# Altium footprint library chip.PcbLib: 28 footprints (part 2 of 2)
Each footprint in its own frame and in the unit in brackets; x right, y up, seen from the top. Pads: shape width x height; smd on the part's side, far side on the other; paste and mask are expansions set on the pad; w line width, h text height; cw(c..) or ccw(c..) is an arc to the next point about the centre after c.
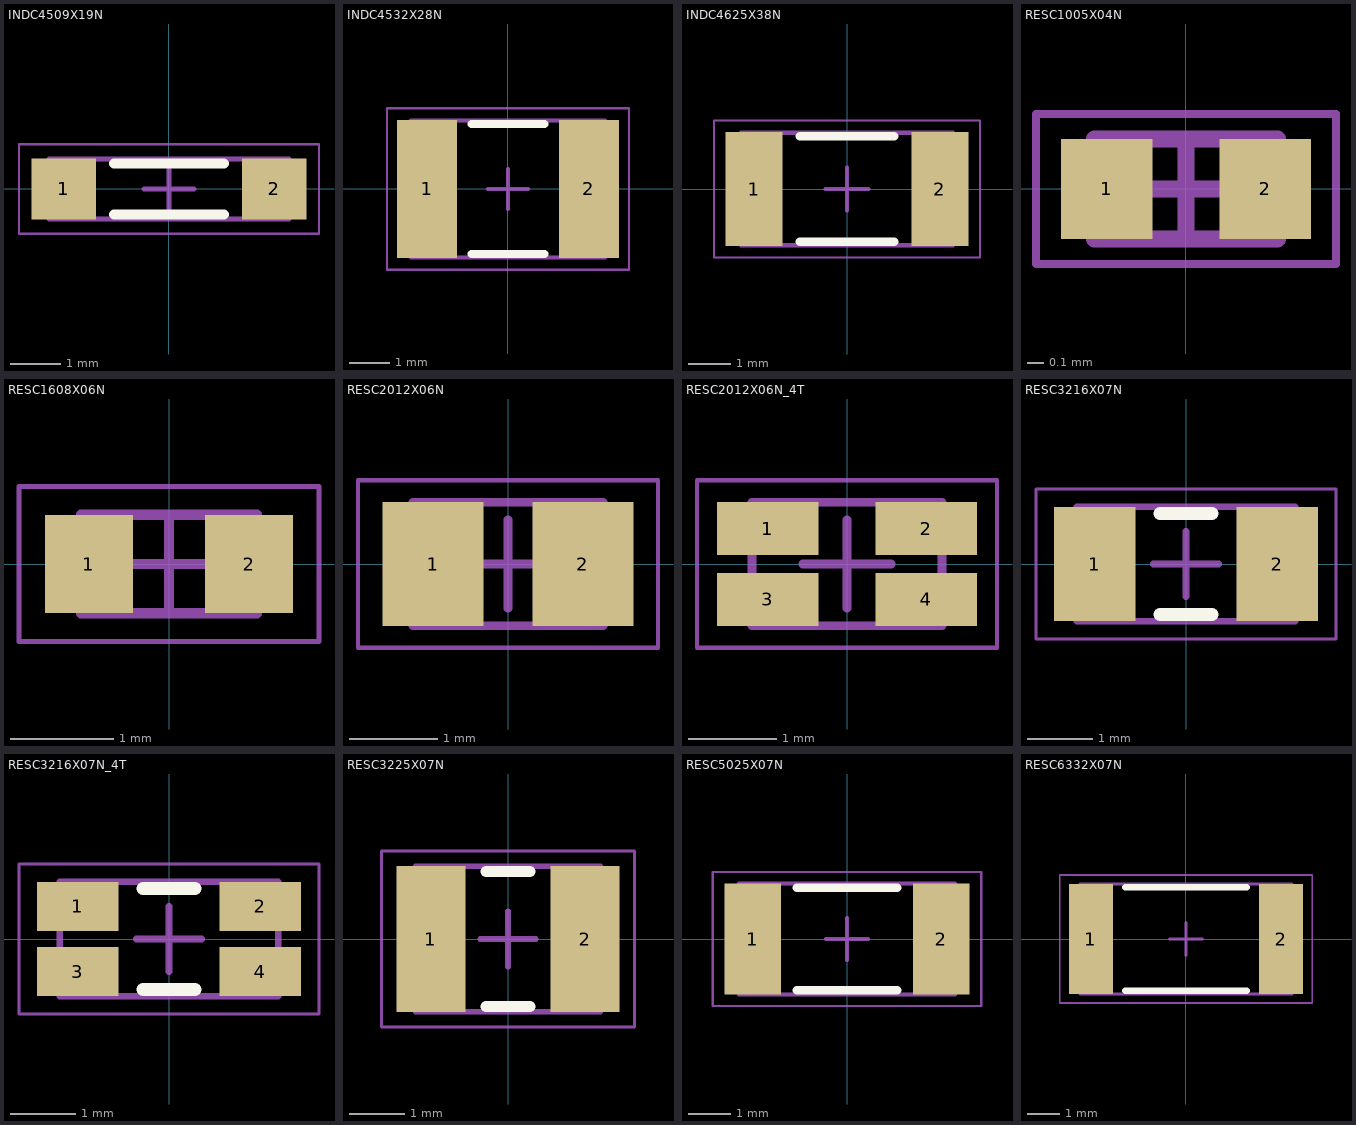
[diagram p1: the footprints below, top view; thin cyan lines are the x and y axes]

## INDC4509X19N [mm] "Chip Inductor, 2-Leads, Body 4.50x0.90mm, IPC Medium Density"
height 1.9
pads (2):
  rect 1.29x1.22 smd: 1(-2.105,0) 2(2.105,0)
Top Overlay:
  lines w0.2: -1.1,-0.51 1.1,-0.51 ; -1.1,0.51 1.1,0.51
Mechanical 13:
  lines w0.1: -2.4,-0.6 2.4,-0.6 2.4,0.6 -2.4,0.6 -2.4,-0.6
Mechanical 15:
  lines w0.05: -3,-0.9 3,-0.9 3,0.9 -3,0.9 -3,-0.9
  lines w0.1: -0.5,0 0.5,0 ; 0,-0.5 0,0.5
3D body "INDC4509X19N.step": height 1.9, standoff 0, extent -2.4,-0.6 2.4,0.6

## INDC4532X28N [mm] "Chip Inductor, 2-Leads, Body 4.50x3.20mm, IPC Medium Density"
height 2.8
pads (2):
  rect 1.49x3.42 smd: 1(-2.005,0) 2(2.005,0)
Top Overlay:
  lines w0.2: -0.9,-1.61 0.9,-1.61 ; -0.9,1.61 0.9,1.61
Mechanical 13:
  lines w0.1: -2.4,-1.7 2.4,-1.7 2.4,1.7 -2.4,1.7 -2.4,-1.7
Mechanical 15:
  lines w0.05: -3,-2 3,-2 3,2 -3,2 -3,-2
  lines w0.1: -0.5,0 0.5,0 ; 0,-0.5 0,0.5
3D body "INDC4532X28N.step": height 2.8, standoff 0, extent -2.4,-1.7 2.4,1.7

## INDC4625X38N [mm] "Chip Inductor, 2-Leads, Body 4.65x2.54mm, IPC Medium Density"
height 3.8
pads (2):
  rect 1.33x2.67 smd: 1(-2.165,0) 2(2.165,0)
Top Overlay:
  lines w0.2: -1.1,-1.235 1.1,-1.235 ; -1.1,1.235 1.1,1.235
Mechanical 13:
  lines w0.1: -2.475,-1.31 2.475,-1.31 2.475,1.31 -2.475,1.31 -2.475,-1.31
Mechanical 15:
  lines w0.05: -3.1,-1.6 3.1,-1.6 3.1,1.6 -3.1,1.6 -3.1,-1.6
  lines w0.1: -0.5,0 0.5,0 ; 0,-0.5 0,0.5
3D body "INDC4625X38N.step": height 3.8, standoff 0, extent -2.475,-1.31 2.475,1.31

## RESC1005X04N [mm] "Chip Resistor, 2-Leads, Body 1.05x0.54mm, IPC Medium Density"
height 0.4
pads (2):
  rect 0.55x0.6 smd: 1(-0.475,0) 2(0.475,0)
Mechanical 13:
  lines w0.1: -0.55,-0.3 0.55,-0.3 0.55,0.3 -0.55,0.3 -0.55,-0.3
Mechanical 15:
  lines w0.05: -0.9,-0.45 0.9,-0.45 0.9,0.45 -0.9,0.45 -0.9,-0.45
  lines w0.1: -0.3,0 0.3,0 ; 0,-0.3 0,0.3
3D body "RESC1005X04N.step": height 0.4, standoff 0, extent -0.55,-0.3 0.55,0.3

## RESC1608X06N [mm] "Chip Resistor, 2-Leads, Body 1.60x0.83mm, IPC Medium Density"
height 0.6
pads (2):
  rect 0.85x0.95 smd: 1(-0.775,0) 2(0.775,0)
Mechanical 13:
  lines w0.1: -0.85,-0.475 0.85,-0.475 0.85,0.475 -0.85,0.475 -0.85,-0.475
Mechanical 15:
  lines w0.05: -1.45,-0.75 1.45,-0.75 1.45,0.75 -1.45,0.75 -1.45,-0.75
  lines w0.1: -0.475,0 0.475,0 ; 0,-0.475 0,0.475
3D body "RESC1608X06N.step": height 0.6, standoff 0, extent -0.85,-0.475 0.85,0.475

## RESC2012X06N [mm] "Chip Resistor, 2-Leads, Body 2.00x1.25mm, IPC Medium Density"
height 0.65
pads (2):
  rect 1.15x1.4 smd: 1(-0.85,0) 2(0.85,0)
Mechanical 13:
  lines w0.1: -1.075,-0.7 -1.075,0.7 1.075,0.7 1.075,-0.7 -1.075,-0.7
Mechanical 15:
  lines w0.05: -1.7,-0.95 -1.7,0.95 1.7,0.95 1.7,-0.95 -1.7,-0.95
  lines w0.1: -0.5,0 0.5,0 ; 0,-0.5 0,0.5
3D body "RESC2012X06N.step": height 0.65, standoff 0, extent -1.075,-0.7 1.075,0.7

## RESC2012X06N_4T [mm] "Chip Resistor, 2-Leads, Body 2.00x1.25mm, IPC Medium Density"
height 0.65
pads (4):
  rect 1.15x0.6 smd: 1(-0.9,0.4) 2(0.9,0.4) 3(-0.9,-0.4) 4(0.9,-0.4)
Mechanical 13:
  lines w0.1: -1.075,-0.7 1.075,-0.7 1.075,0.7 -1.075,0.7 -1.075,-0.7
Mechanical 15:
  lines w0.05: -1.7,-0.95 1.7,-0.95 1.7,0.95 -1.7,0.95 -1.7,-0.95
  lines w0.1: -0.5,0 0.5,0 ; 0,-0.5 0,0.5
3D body "RESC2012X06N.step": height 0.65, standoff 0, extent -1.075,-0.7 1.075,0.7

## RESC3216X07N [mm] "Chip Resistor, 2-Leads, Body 3.20x1.60mm, IPC Medium Density"
height 0.71
pads (2):
  rect 1.25x1.75 smd: 1(-1.4,0) 2(1.4,0)
Top Overlay:
  lines w0.2: -0.4,-0.775 0.4,-0.775 ; -0.4,0.775 0.4,0.775
Mechanical 13:
  lines w0.1: -1.675,-0.875 1.675,-0.875 1.675,0.875 -1.675,0.875 -1.675,-0.875
Mechanical 15:
  lines w0.05: -2.3,-1.15 2.3,-1.15 2.3,1.15 -2.3,1.15 -2.3,-1.15
  lines w0.1: -0.5,0 0.5,0 ; 0,-0.5 0,0.5
3D body "RESC3216X07N.step": height 0.71, standoff 0, extent -1.675,-0.875 1.675,0.875

## RESC3216X07N_4T [mm] "Chip Resistor, 2-Leads, Body 3.20x1.60mm, IPC Medium Density"
height 0.71
pads (4):
  rect 1.25x0.75 smd: 1(-1.4,0.5) 2(1.4,0.5) 3(-1.4,-0.5) 4(1.4,-0.5)
Top Overlay:
  lines w0.2: -0.4,-0.775 0.4,-0.775 ; -0.4,0.775 0.4,0.775
Mechanical 13:
  lines w0.1: -1.675,-0.875 -1.675,0.875 1.675,0.875 1.675,-0.875 -1.675,-0.875
Mechanical 15:
  lines w0.05: -2.3,-1.15 -2.3,1.15 2.3,1.15 2.3,-1.15 -2.3,-1.15
  lines w0.1: -0.5,0 0.5,0 ; 0,-0.5 0,0.5
3D body "RESC3216X07N.step": height 0.71, standoff 0, extent -1.675,-0.875 1.675,0.875

## RESC3225X07N [mm] "Chip Resistor, 2-Leads, Body 3.20x2.49mm, IPC Medium Density"
height 0.71
pads (2):
  rect 1.25x2.65 smd: 1(-1.4,0) 2(1.4,0)
Top Overlay:
  lines w0.2: -0.4,-1.225 0.4,-1.225 ; -0.4,1.225 0.4,1.225
Mechanical 13:
  lines w0.1: -1.675,-1.32 1.675,-1.32 1.675,1.32 -1.675,1.32 -1.675,-1.32
Mechanical 15:
  lines w0.05: -2.3,-1.6 2.3,-1.6 2.3,1.6 -2.3,1.6 -2.3,-1.6
  lines w0.1: -0.5,0 0.5,0 ; 0,-0.5 0,0.5
3D body "RESC3225X07N.step": height 0.71, standoff 0, extent -1.675,-1.32 1.675,1.32

## RESC5025X07N [mm] "Chip Resistor, 2-Leads, Body 5.00x2.50mm, IPC Medium Density"
height 0.71
pads (2):
  rect 1.35x2.65 smd: 1(-2.25,0) 2(2.25,0)
Top Overlay:
  lines w0.2: -1.2,-1.225 1.2,-1.225 ; -1.2,1.225 1.2,1.225
Mechanical 13:
  lines w0.1: -2.575,-1.325 -2.575,1.325 2.575,1.325 2.575,-1.325 -2.575,-1.325
Mechanical 15:
  lines w0.05: -3.2,-1.6 -3.2,1.6 3.2,1.6 3.2,-1.6 -3.2,-1.6
  lines w0.1: -0.5,0 0.5,0 ; 0,-0.5 0,0.5
3D body "RESC5025X07N.step": height 0.71, standoff 0, extent -2.575,-1.325 2.575,1.325

## RESC6332X07N [mm] "Chip Resistor, 2-Leads, Body 6.30x3.20mm, IPC Medium Density"
height 0.71
pads (2):
  rect 1.35x3.35 smd: 1(-2.9,0) 2(2.9,0)
Top Overlay:
  lines w0.2: -1.85,-1.575 1.85,-1.575 ; -1.85,1.575 1.85,1.575
Mechanical 13:
  lines w0.1: -3.225,-1.675 3.225,-1.675 3.225,1.675 -3.225,1.675 -3.225,-1.675
Mechanical 15:
  lines w0.05: -3.85,-1.95 3.85,-1.95 3.85,1.95 -3.85,1.95 -3.85,-1.95
  lines w0.1: -0.5,0 0.5,0 ; 0,-0.5 0,0.5
3D body "RESC6332X07N.step": height 0.71, standoff 0, extent -3.225,-1.675 3.225,1.675